# EAGLE library part LMZM23601V3SILT (library TexasInstruments)
36-V, 1-A Step-Down DC-DC Power Module in 3.8-mm 3-mm Package Source: Datasheet <http://www.ti.com/lit/ds/symlink/lmzm23601.pdf>
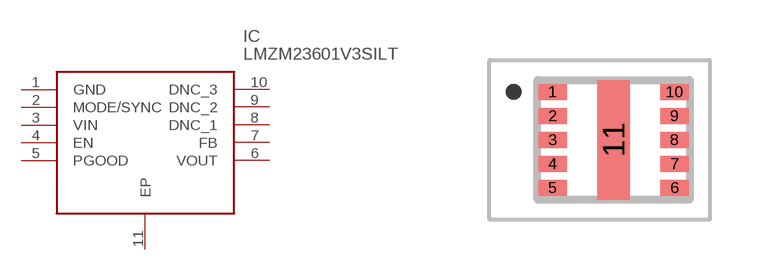
[diagram p4: symbol with the pads of LMZM23600SILT; footprint LMZM23600SILT]

Designator prefix IC

## LMZM23601V3SILT (DESCRIPTION: 36-V, 1-A Step-Down DC-DC Power Module in 3.8-mm 3-mm Package; HEIGHT: 1.578mm; MANUFACTURER_NAME: Texas Instruments; MANUFACTURER_PART_NUMBER: LMZM23601V3SILT; MOUSER_PART_NUMBER: 595-LMZM23601V3SILT; MOUSER_PRICE-STOCK: https://www.mouser.com/Search/Refine.aspx?Keyword=595-LMZM23601V3SILT)  [LMZM23600SILT]
1  GND
2  MODE/SYNC
3  VIN
4  EN
5  PGOOD
6  VOUT
7  FB
8  DNC_1
9  DNC_2
10  DNC_3
11  EP

## Footprint LMZM23600SILT (pad centres in mm)
SIL0010A_1
smd 0.7 x 0.4: 1 -1.525,1.2; 2 -1.525,0.6; 3 -1.525,0; 4 -1.525,-0.6; 5 -1.525,-1.2; 6 1.525,-1.2; 7 1.525,-0.6; 8 1.525,0; 9 1.525,0.6; 10 1.525,1.2
smd 0.8 x 3: 11 0,0